# EAGLE library part PCF8574 (library Tinkercad)
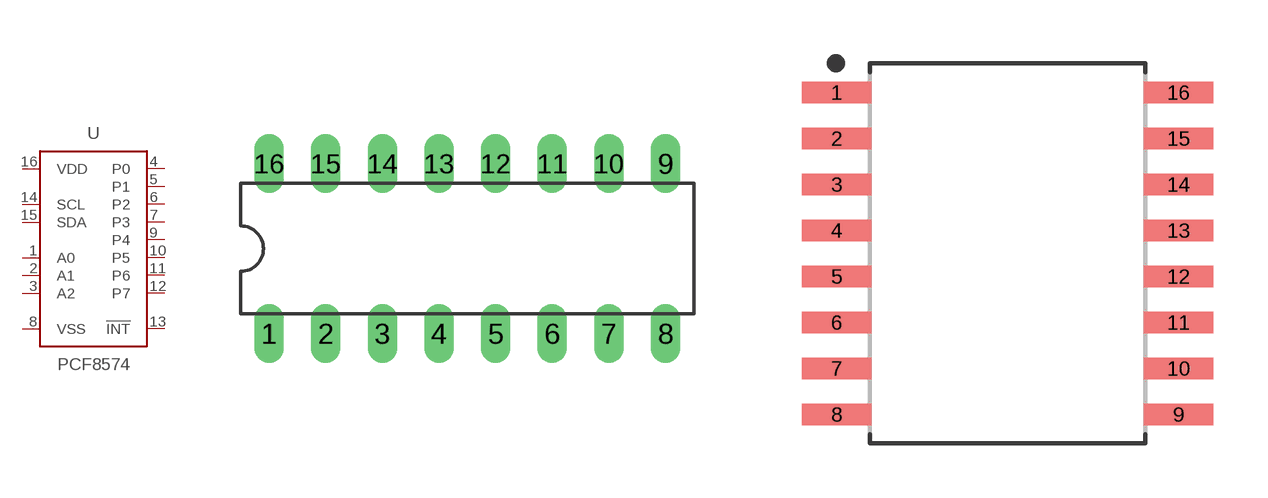
[diagram p28: symbol with the pads of DIL16; footprints DIL16, SOIC127P1032X265-16N]

Designator prefix -

## PCF8574DIP16  [DIL16]
1  A0  in
2  A1  in
3  A2  in
4  P0
5  P1
6  P2
7  P3
8  VSS  in
9  P4
10  P5
11  P6
12  P7
13  !INT  out
14  SCL
15  SDA
16  VDD  in

## PCF8574SOIC16  [SOIC127P1032X265-16N]
Pads as for DIL16

## PCF8574SSOP20  [SOP65P640X150-20N]
1  !INT  out
2  SCL
4  SDA
5  VDD  in
6  A0  in
7  A1  in
9  A2  in
10  P0
11  P1
12  P2
14  P3
15  VSS  in
16  P4
17  P5
19  P6
20  P7

## Footprint DIL16 (pad centres in mm)
Dual In Line Package
drill 0.813 long: 1 -8.89,-3.81; 2 -6.35,-3.81; 3 -3.81,-3.81; 4 -1.27,-3.81; 5 1.27,-3.81; 6 3.81,-3.81; 7 6.35,-3.81; 8 8.89,-3.81; 9 8.89,3.81; 10 6.35,3.81; 11 3.81,3.81; 12 1.27,3.81; 13 -1.27,3.81; 14 -3.81,3.81; 15 -6.35,3.81; 16 -8.89,3.81

## Footprint SOIC127P1032X265-16N (pad centres in mm)
16-SOIC, 1.27 mm pitch, 10.32 mm span, 10.30 X 7.50 X 2.65 mm body 16-pin SOIC package with 1.27 mm pitch, 10.32 mm span with body size 10.30 X 7.50 X 2.65 mm
smd 1.917 x 0.595: 1 -4.722,4.445; 2 -4.722,3.175; 3 -4.722,1.905; 4 -4.722,0.635; 5 -4.722,-0.635; 6 -4.722,-1.905; 7 -4.722,-3.175; 8 -4.722,-4.445; 9 4.722,-4.445; 10 4.722,-3.175; 11 4.722,-1.905; 12 4.722,-0.635; 13 4.722,0.635; 14 4.722,1.905; 15 4.722,3.175; 16 4.722,4.445

## Footprint SOP65P640X150-20N (pad centres in mm)
20-SOP, 0.65 mm pitch, 6.40 mm span, 6.50 X 4.40 X 1.50 mm body 20-pin SOP package with 0.65 mm pitch, 6.40 mm span with body size 6.50 X 4.40 X 1.50 mm
smd 1.56 x 0.427: 1 -2.878,2.925; 2 -2.878,2.275; 3 -2.878,1.625; 4 -2.878,0.975; 5 -2.878,0.325; 6 -2.878,-0.325; 7 -2.878,-0.975; 8 -2.878,-1.625; 9 -2.878,-2.275; 10 -2.878,-2.925; 11 2.878,-2.925; 12 2.878,-2.275; 13 2.878,-1.625; 14 2.878,-0.975; 15 2.878,-0.325; 16 2.878,0.325; 17 2.878,0.975; 18 2.878,1.625; 19 2.878,2.275; 20 2.878,2.925